# Altium footprint library D_IC.PcbLib: 5 footprints
Each footprint in its own frame and in the unit in brackets; x right, y up, seen from the top. Pads: shape width x height; smd on the part's side, far side on the other; paste and mask are expansions set on the pad; w line width, h text height; cw(c..) or ccw(c..) is an arc to the next point about the centre after c.
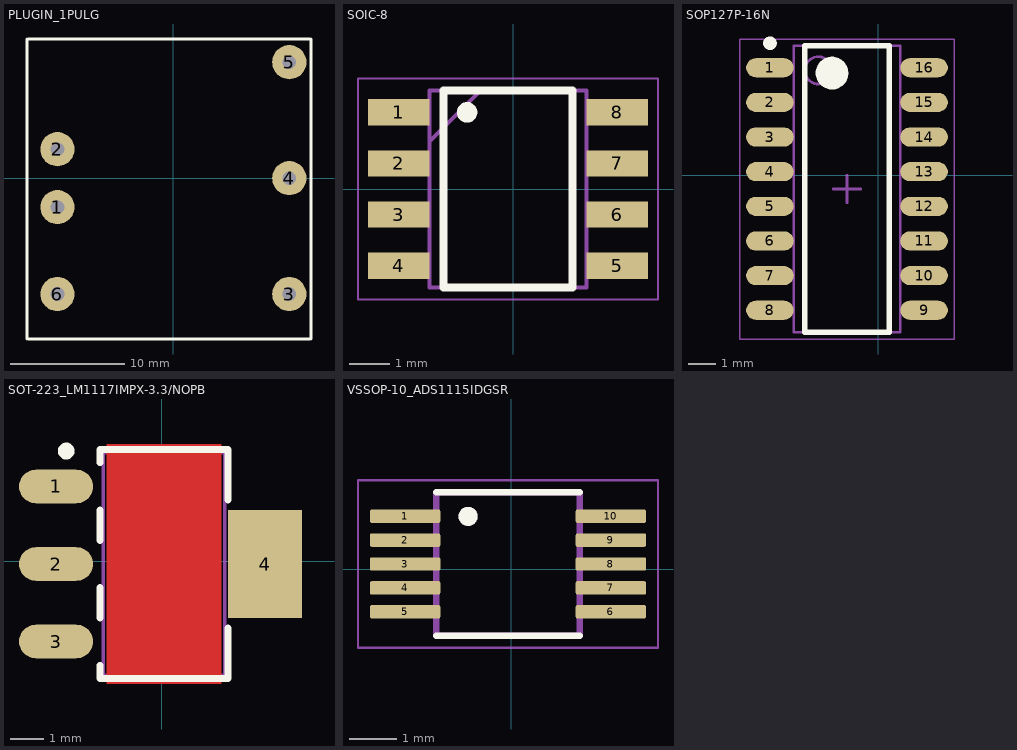
[diagram p0: the footprints below, top view; thin cyan lines are the x and y axes]

## PLUGIN_1PULG [mm] "THT PARA HI LINK DE 1 PULGADA"
pads (6):
  round 3 hole 1.2: 1(-10.16,-2.54) 2(-10.16,2.54) 3(10.16,-10.16) 4(10.16,0) 5(10.16,10.16) 6(-10.16,-10.16)
Top Overlay:
  lines w0.254: -12.827,-14.097 -12.827,12.192 ; -12.7,-14.097 11.938,-14.097 ; -12.7,12.192 11.938,12.192 ; 12.065,-14.097 12.065,12.192

## SOIC-8 [mm]
pads (8):
  rect 1.525x0.65 smd: 1(-2.839,1.905) 2(-2.839,0.635) 3(-2.839,-0.635) 4(-2.839,-1.905) 5(2.585,-1.905) 6(2.585,-0.635) 7(2.585,0.635) 8(2.585,1.905)
Top Overlay:
  circle w0.254: c-1.143,1.905 r0.127
  lines w0.2: -1.727,-2.45 1.473,-2.45 1.473,2.45 -1.727,2.45 -1.727,-2.45
Mechanical 13:
  lines w0.1: -2.077,1.18 -0.807,2.45 ; -2.077,-2.45 1.823,-2.45 1.823,2.45 -2.077,2.45 -2.077,-2.45
Mechanical 15:
  lines w0.05: -3.852,-2.75 3.598,-2.75 3.598,2.75 -3.852,2.75 -3.852,-2.75
3D body "NE555DR.stp": height 1.75, standoff 0, extent -3.127,-2.45 2.873,2.45

## SOP127P-16N [mm]
pads (16):
  oval 1.75x0.7 smd: 1(-3.968,3.937) 2(-3.968,2.667) 3(-3.968,1.397) 4(-3.968,0.127) 5(-3.968,-1.143) 6(-3.968,-2.413) 7(-3.968,-3.683) 8(-3.968,-4.953) 9(1.682,-4.953) 10(1.682,-3.683) 11(1.682,-2.413) 12(1.682,-1.143) 13(1.682,0.127) 14(1.682,1.397) 15(1.682,2.667) 16(1.682,3.937)
Top Overlay:
  circle w0.6: c-1.693,3.742 r0.3
  circle w0.25: c-3.968,4.837 r0.125
  lines w0.2: -2.693,-5.758 0.407,-5.758 0.407,4.742 -2.693,4.742 -2.693,-5.758
Mechanical 13:
  circle w0.1: c-2.193,3.842 r0.5
  lines w0.1: -3.093,-5.758 0.807,-5.758 0.807,4.742 -3.093,4.742 -3.093,-5.758
Mechanical 15:
  lines w0.05: -5.068,-6.008 2.782,-6.008 2.782,4.992 -5.068,4.992 -5.068,-6.008
  lines w0.1: -1.643,-0.508 -0.643,-0.508 ; -1.143,-1.008 -1.143,-0.008
3D body "SOP127P660X265-16N.step": height 2.65, standoff 0, extent -4.418,-5.758 2.132,4.742

## SOT-223_LM1117IMPX-3.3/NOPB [mm] "SOT-223 Pitch 2.3 mm"
pads (4):
  oval 2.2x1 smd: 1(-3.14,2.221) 2(-3.14,-0.079) 3(-3.14,-2.379)
  rect 2.2x3.2 smd: 4(3.06,-0.079)
Top Layer:
  pour cut-out: -1.64,3.477 1.76,3.477 1.76,-3.635 -1.64,-3.635
Top Overlay:
  circle w0.25: c-2.84,3.271 r0.125
  lines w0.2: -1.84,-3.079 -1.84,-3.479 1.96,-3.479 1.96,-1.979 ; -1.84,-1.679 -1.84,-0.779 ; -1.84,0.621 -1.84,1.521 ; -1.84,2.921 -1.84,3.321 1.96,3.321 1.96,1.821
Mechanical 13:
  lines w0.1: -1.74,-3.379 1.86,-3.379 1.86,3.221 -1.74,3.221 -1.74,-3.379
3D body "User Library-SOT223-3.step": height 1.7, standoff 0, extent -3.44,-3.329 3.56,3.171

## VSSOP-10_ADS1115IDGSR [mm]
pads (10):
  rrect25% 1.47x0.28 smd: 1(-2.217,1.112) 2(-2.217,0.612) 3(-2.217,0.112) 4(-2.217,-0.388) 5(-2.217,-0.888) 6(2.083,-0.888) 7(2.083,-0.388) 8(2.083,0.112) 9(2.083,0.612) 10(2.083,1.112)
Top Overlay:
  circle w0.2: c-0.9,1.108 r0.1
  lines w0.127: -1.567,-1.388 1.433,-1.388 ; -1.567,1.612 1.433,1.612
Mechanical 13:
  circle w0.2: c-0.9,1.108 r0.1
  lines w0.127: -1.567,-1.388 -1.567,1.612 1.433,1.612 1.433,-1.388 -1.567,-1.388
Mechanical 15:
  lines w0.05: -3.202,-1.638 -3.202,1.862 3.068,1.862 3.068,-1.638 -3.202,-1.638
3D body "ADS1115IDGSR-v2.STEP": height 1.1, standoff 0, extent -2.515,-1.379 2.385,1.621